# Altium schematic symbol library hdmi_0.Schlib: 1 symbol
Pins are listed as number, name and electrical type; pins without a type are passive.

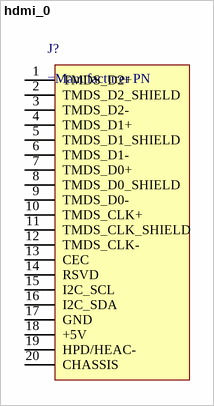
[diagram p0: symbol hdmi_0]

## hdmi_0
designator J?
HDMI Connector symbol
pins: 1 TMDS_D2+, 2 TMDS_D2_SHIELD, 3 TMDS_D2-, 4 TMDS_D1+, 5 TMDS_D1_SHIELD, 6 TMDS_D1-, 7 TMDS_D0+, 8 TMDS_D0_SHIELD, 9 TMDS_D0-, 10 TMDS_CLK+, 11 TMDS_CLK_SHIELD, 12 TMDS_CLK-, 13 CEC, 14 RSVD, 15 I2C_SCL, 16 I2C_SDA, 17 GND, 18 +5V, 19 HPD/HEAC-, 20 CHASSIS